# Altium footprint library SC70-6.PcbLib: 1 footprints
Each footprint in its own frame and in the unit in brackets; x right, y up, seen from the top. Pads: shape width x height; smd on the part's side, far side on the other; paste and mask are expansions set on the pad; w line width, h text height; cw(c..) or ccw(c..) is an arc to the next point about the centre after c.
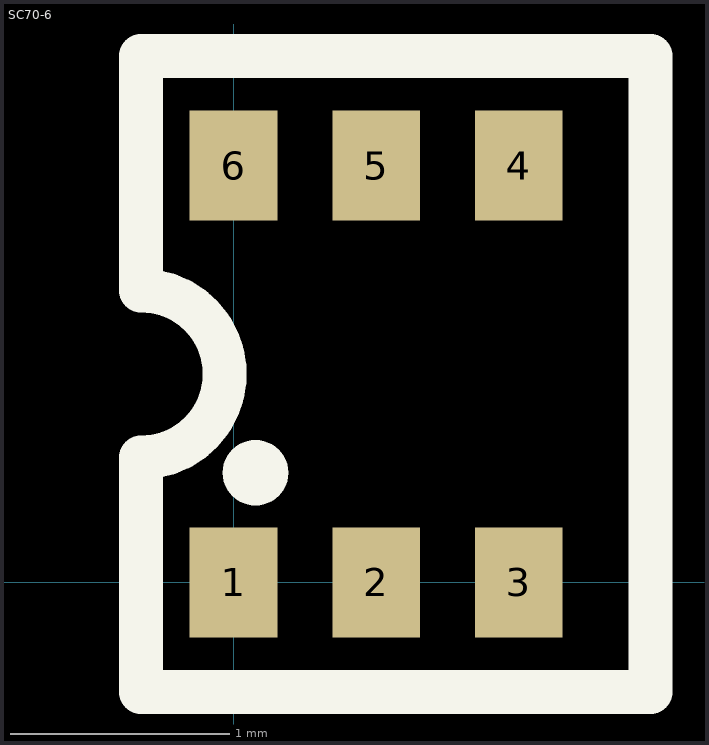
[diagram p0: the footprint, top view; thin cyan lines are the x and y axes]

## SC70-6 [mm]
pads (7):
  rect 0.4x0.5 smd mask+0.02: 1(0,0) 2(0.65,0) 3(1.3,0) 4(1.3,1.9) 5(0.65,1.9) 6(0,1.9)
  round 0.3 on Top Overlay: ""(0.1,0.5)
Top Overlay:
  lines w0.2: -0.421,-0.5 1.9,-0.5 1.9,2.4 -0.421,2.4 -0.421,1.331 cw(c-0.421,0.95) -0.421,0.569 -0.421,-0.5
3D body "SC70-6.step": height 0.92, standoff -0.03, extent -0.35,-0.1 1.65,2